# Altium schematic symbol library 53261-0471.SchLib: 1 symbol
Pins are listed as number, name and electrical type; pins without a type are passive.

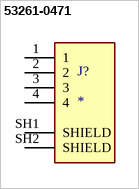
[diagram p0: symbol 53261-0471]

## 53261-0471
designator J?
<b>Header</b> Molex 1.25mm Pitch PicoBladeâ„¢ Header, Surface Mount, Right Angle, 4 Circuits; MP: 53261-0471; Price: None; Availability: Unavailable; Value: *; Package: None
footprint MOLEX_53261-0471
pins: 1, 2, 3, 4, SH1 SHIELD, SH2 SHIELD